# EAGLE library part CC2520 (library TI)
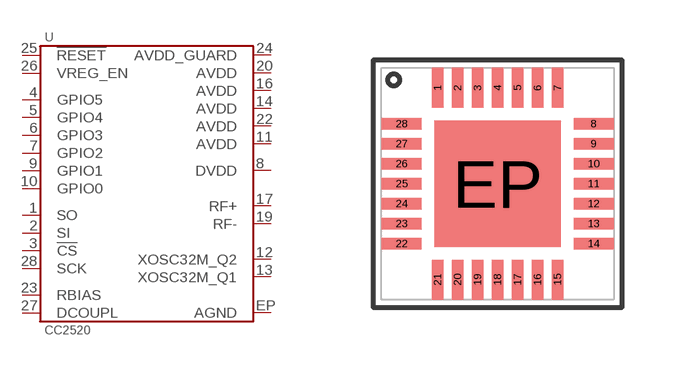
[diagram p5: symbol with the pads of QFN-28; footprint QFN-28]

Designator prefix U

## CC2520  [QFN-28]
1  SO
2  SI
3  !CS
4  GPIO5
5  GPIO4
6  GPIO3
7  GPIO2
8  DVDD
9  GPIO1
10  GPIO0
11  AVDD
12  XOSC32M_Q2
13  XOSC32M_Q1
14  AVDD
16  AVDD
17  RF+
19  RF-
20  AVDD
22  AVDD
23  RBIAS
24  AVDD_GUARD
25  !RESET
26  VREG_EN
27  DCOUPL
28  SCK
EP  AGND

## Footprint QFN-28 (pad centres in mm)
smd 0.28 x 1: 1 -1.5,2.4; 2 -1,2.4; 3 -0.5,2.4; 4 0,2.4; 5 0.5,2.4; 6 1,2.4; 7 1.5,2.4; 15 1.5,-2.4; 16 1,-2.4; 17 0.5,-2.4; 18 0,-2.4; 19 -0.5,-2.4; 20 -1,-2.4; 21 -1.5,-2.4
smd 1 x 0.28: 8 2.4,1.5; 9 2.4,1; 10 2.4,0.5; 11 2.4,0; 12 2.4,-0.5; 13 2.4,-1; 14 2.4,-1.5; 22 -2.4,-1.5; 23 -2.4,-1; 24 -2.4,-0.5; 25 -2.4,0; 26 -2.4,0.5; 27 -2.4,1; 28 -2.4,1.5
smd 3.15 x 3.15: EP 0,0